# EAGLE library part DSP56F8323 (library dsp56f8323)
Freescale/Motorola DSP45F8323 64 Pin Quad Flat Pack
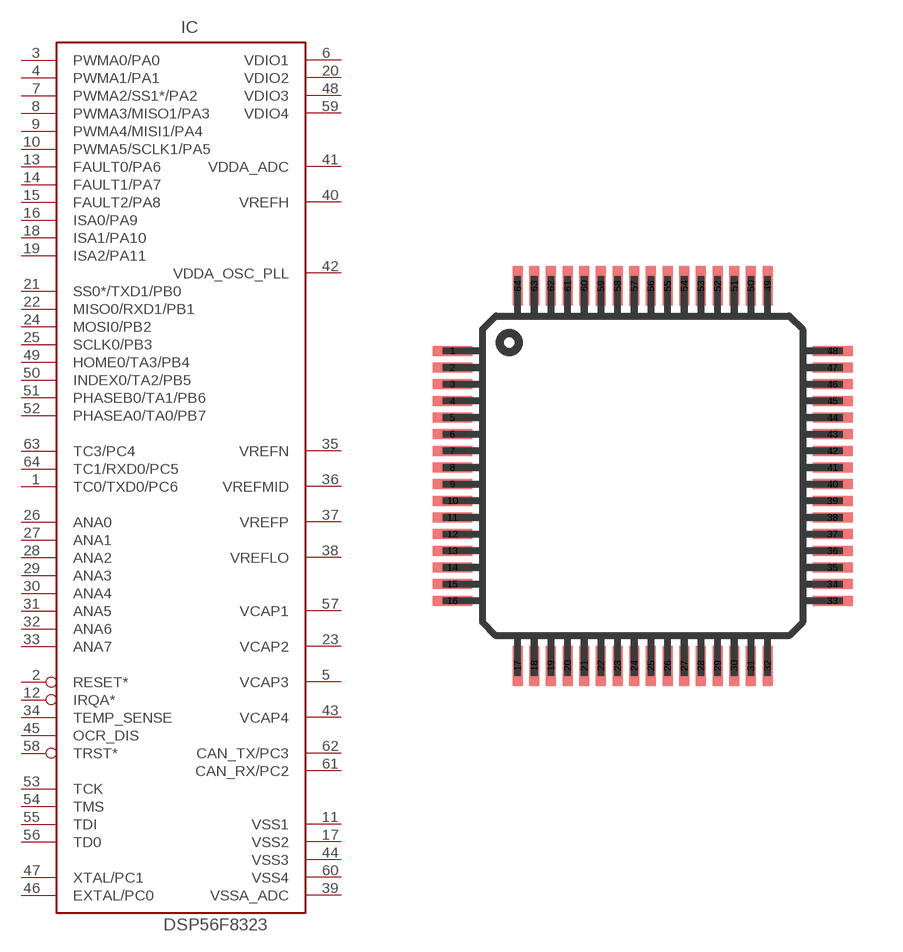
[diagram p0: symbol with the pads of LQFP64-10X10; footprint LQFP64-10X10]

Designator prefix IC

## DSP56F8323  [LQFP64-10X10]
1  TC0/TXD0/PC6
2  RESET*
3  PWMA0/PA0
4  PWMA1/PA1
5  VCAP3  pwr
6  VDIO1  pwr
7  PWMA2/SS1*/PA2
8  PWMA3/MISO1/PA3
9  PWMA4/MISI1/PA4
10  PWMA5/SCLK1/PA5
11  VSS1  pwr
12  IRQA*
13  FAULT0/PA6
14  FAULT1/PA7
15  FAULT2/PA8
16  ISA0/PA9
17  VSS2  pwr
18  ISA1/PA10
19  ISA2/PA11
20  VDIO2  pwr
21  SS0*/TXD1/PB0
22  MISO0/RXD1/PB1
23  VCAP2  pwr
24  MOSI0/PB2
25  SCLK0/PB3
26  ANA0
27  ANA1
28  ANA2
29  ANA3
30  ANA4
31  ANA5
32  ANA6
33  ANA7
34  TEMP_SENSE
35  VREFN
36  VREFMID
37  VREFP
38  VREFLO
39  VSSA_ADC  pwr
40  VREFH  in
41  VDDA_ADC  pwr
42  VDDA_OSC_PLL  pwr
43  VCAP4  pwr
44  VSS3  pwr
45  OCR_DIS
46  EXTAL/PC0
47  XTAL/PC1
48  VDIO3  pwr
49  HOME0/TA3/PB4
50  INDEX0/TA2/PB5
51  PHASEB0/TA1/PB6
52  PHASEA0/TA0/PB7
53  TCK
54  TMS
55  TDI
56  TD0
57  VCAP1  pwr
58  TRST*
59  VDIO4  pwr
60  VSS4  pwr
61  CAN_RX/PC2
62  CAN_TX/PC3
63  TC3/PC4
64  TC1/RXD0/PC5

## Footprint LQFP64-10X10 (pad centres in mm)
Quad Flat Pack 64 PIN Quad Flat Pack
smd 1.2 x 0.3: 1 -5.7,3.75; 2 -5.7,3.25; 3 -5.7,2.75; 4 -5.7,2.25; 5 -5.7,1.75; 6 -5.7,1.25; 7 -5.7,0.75; 8 -5.7,0.25; 9 -5.7,-0.25; 10 -5.7,-0.75; 11 -5.7,-1.25; 12 -5.7,-1.75; 13 -5.7,-2.25; 14 -5.7,-2.75; 15 -5.7,-3.25; 16 -5.7,-3.75; 33 5.7,-3.75; 34 5.7,-3.25; 35 5.7,-2.75; 36 5.7,-2.25; 37 5.7,-1.75; 38 5.7,-1.25; 39 5.7,-0.75; 40 5.7,-0.25; 41 5.7,0.25; 42 5.7,0.75; 43 5.7,1.25; 44 5.7,1.75; 45 5.7,2.25; 46 5.7,2.75; 47 5.7,3.25; 48 5.7,3.75
smd 0.3 x 1.2: 17 -3.75,-5.7; 18 -3.25,-5.7; 19 -2.75,-5.7; 20 -2.25,-5.7; 21 -1.75,-5.7; 22 -1.25,-5.7; 23 -0.75,-5.7; 24 -0.25,-5.7; 25 0.25,-5.7; 26 0.75,-5.7; 27 1.25,-5.7; 28 1.75,-5.7; 29 2.25,-5.7; 30 2.75,-5.7; 31 3.25,-5.7; 32 3.75,-5.7; 49 3.75,5.7; 50 3.25,5.7; 51 2.75,5.7; 52 2.25,5.7; 53 1.75,5.7; 54 1.25,5.7; 55 0.75,5.7; 56 0.25,5.7; 57 -0.25,5.7; 58 -0.75,5.7; 59 -1.25,5.7; 60 -1.75,5.7; 61 -2.25,5.7; 62 -2.75,5.7; 63 -3.25,5.7; 64 -3.75,5.7